# EAGLE library part ALLEGRO_A3985 (library Taylor)
Dual Full-Bridge MOSFET Driver with Microstepping Translator
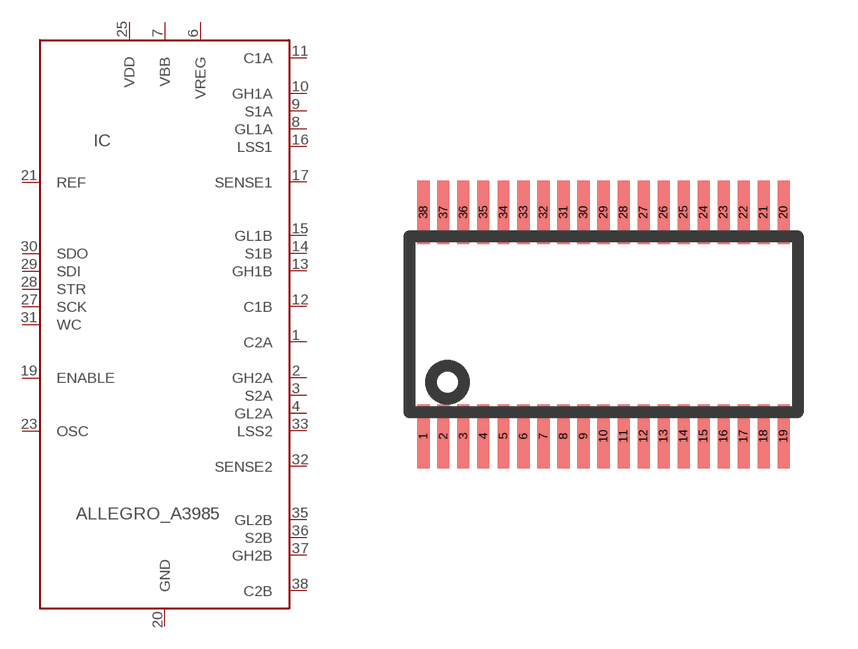
[diagram p17: symbol with the pads of TSSOP38; footprint TSSOP38]

Designator prefix IC

## ALLEGRO_A3985  [TSSOP38]
1  C2A  pas
2  GH2A  pas
3  S2A  pas
4  GL2A  pas
6  VREG  pas
7  VBB  pas
8  GL1A  pas
9  S1A  pas
10  GH1A  pas
11  C1A  pas
12  C1B  pas
13  GH1B  pas
14  S1B  pas
15  GL1B  pas
16  LSS1  pas
17  SENSE1  pas
19  ENABLE  pas
20  GND  pas
21  REF  pas
23  OSC  pas
25  VDD  pas
27  SCK  pas
28  STR  pas
29  SDI  pas
30  SDO  pas
31  WC  pas
32  SENSE2  pas
33  LSS2  pas
35  GL2B  pas
36  S2B  pas
37  GH2B  pas
38  C2B  pas

## Footprint TSSOP38 (pad centres in mm)
smd 0.3 x 1.6: 1 -4.5,-2.8; 2 -4,-2.8; 3 -3.5,-2.8; 4 -3,-2.8; 5 -2.5,-2.8; 6 -2,-2.8; 7 -1.5,-2.8; 8 -1,-2.8; 9 -0.5,-2.8; 10 0,-2.8; 11 0.5,-2.8; 12 1,-2.8; 13 1.5,-2.8; 14 2,-2.8; 15 2.5,-2.8; 16 3,-2.8; 17 3.5,-2.8; 18 4,-2.8; 19 4.5,-2.8; 20 4.5,2.8; 21 4,2.8; 22 3.5,2.8; 23 3,2.8; 24 2.5,2.8; 25 2,2.8; 26 1.5,2.8; 27 1,2.8; 28 0.5,2.8; 29 0,2.8; 30 -0.5,2.8; 31 -1,2.8; 32 -1.5,2.8; 33 -2,2.8; 34 -2.5,2.8; 35 -3,2.8; 36 -3.5,2.8; 37 -4,2.8; 38 -4.5,2.8